# EAGLE library part 0900PC15J0013 (library CC11x)
CC1120 one-piece output filter. http://onecall.farnell.com/johanson-technology/0900pc15j0013e/balun-imp-matched-868-928mhz-chip/dp/2341894 http://www.johansontechnology.com/datasheets/highly-integrated-passive-components/0900PC15J0013.pdf
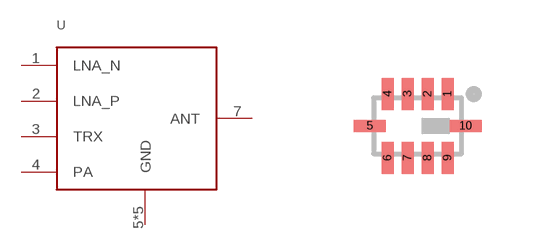
[diagram p6: symbol with the pads of 0900PC15J0013; footprint 0900PC15J0013]

Designator prefix -

## 0900PC15J0013  [0900PC15J0013]
1  LNA_N  out
2  LNA_P  out
3  TRX  in
4  PA  in
5  GND  pwr
6  GND  pwr
7  ANT  out
8  GND  pwr
9  GND  pwr
10  GND  pwr

## Footprint 0900PC15J0013 (pad centres in mm)
smd 0.3 x 0.8: 1 0.75,0.8; 2 0.25,0.8; 3 -0.25,0.8; 4 -0.75,0.8; 6 -0.75,-0.8; 7 -0.25,-0.8; 8 0.25,-0.8; 9 0.75,-0.8
smd 0.8 x 0.3: 5 -1.2,0; 10 1.2,0